# Altium footprint library BKRES_PcbLib.PcbLib: 16 footprints
Each footprint in its own frame and in the unit in brackets; x right, y up, seen from the top. Pads: shape width x height; smd on the part's side, far side on the other; paste and mask are expansions set on the pad; w line width, h text height; cw(c..) or ccw(c..) is an arc to the next point about the centre after c.
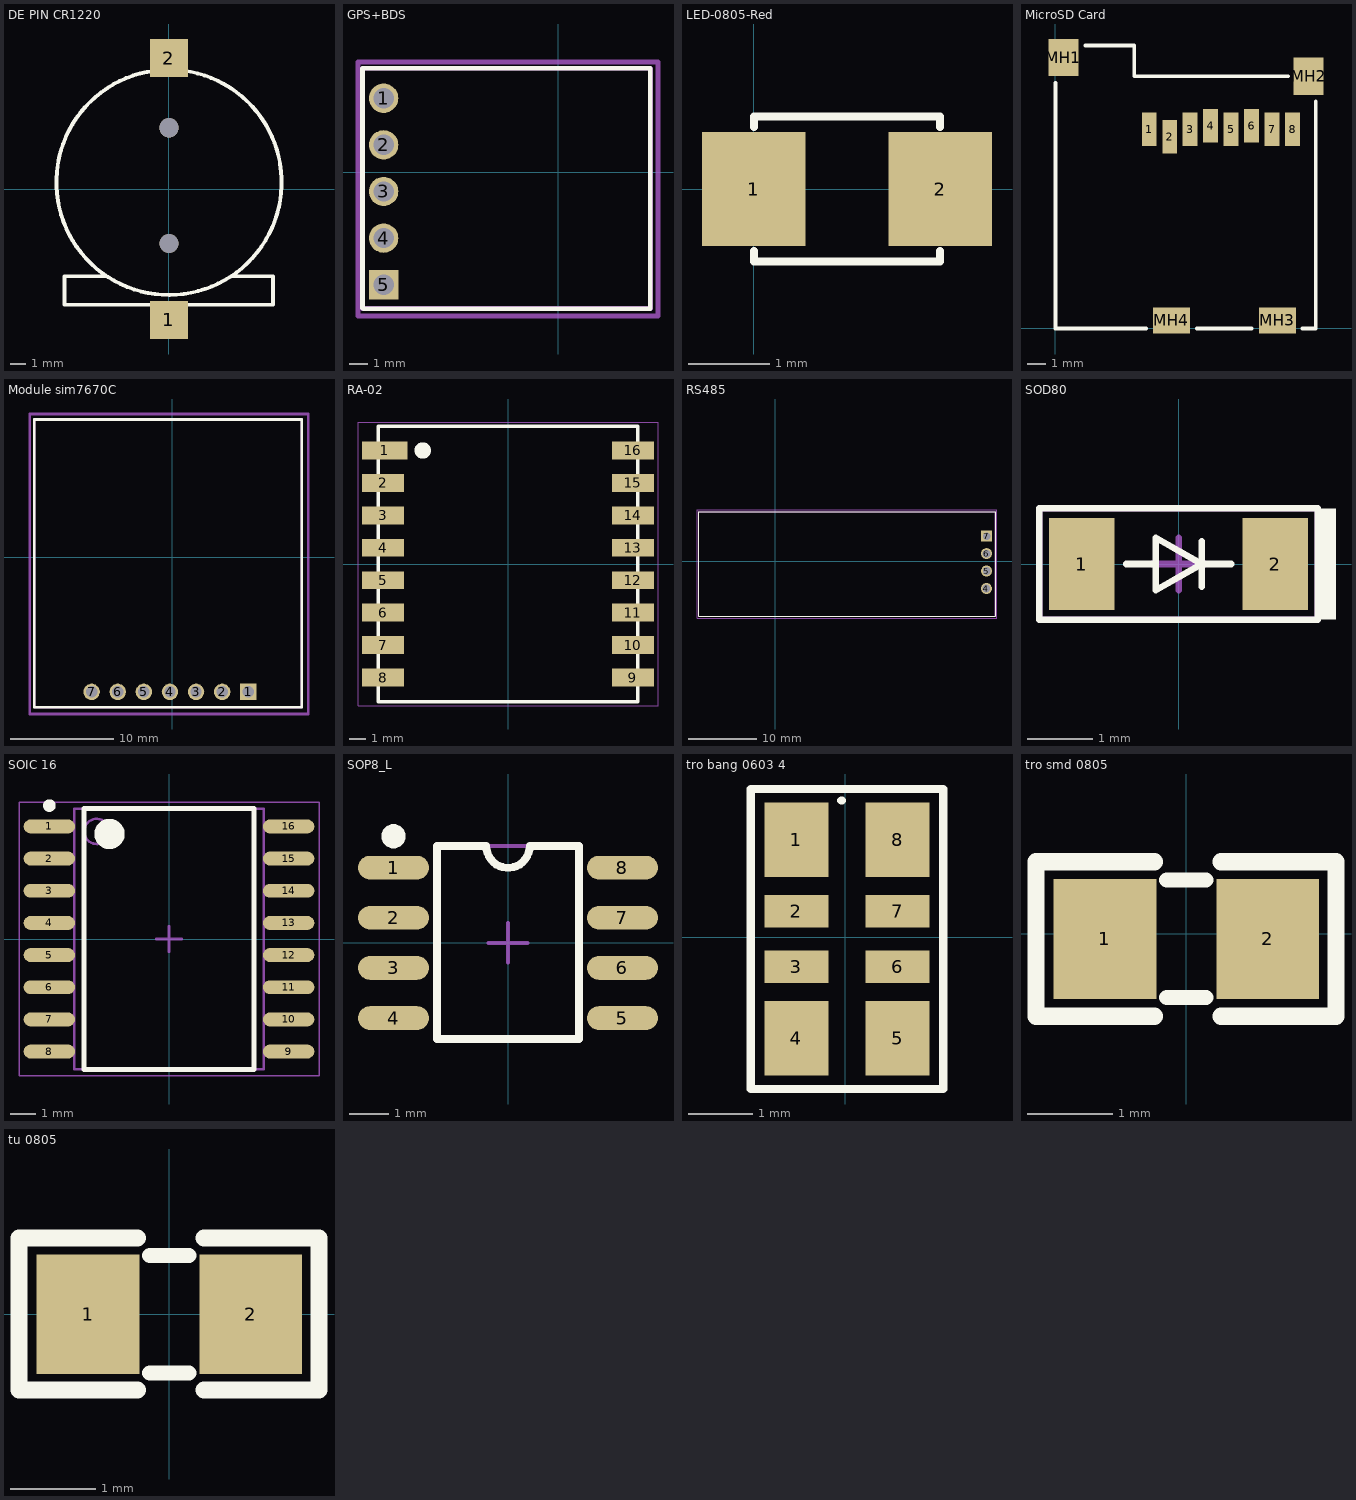
[diagram p0: the footprints below, top view; thin cyan lines are the x and y axes]

## DE PIN CR1220 [mm]
pads (2):
  rect 2.5x2.5 smd: 1(0,-8.6) 2(0,8.6)
via 0.005,-3.579 diameter 1.27 hole 1.27
via 0,4.026 diameter 1.27 hole 1.27
Top Overlay:
  lines w0.254: -4.194,-5.725 -6.868,-5.725 -6.868,-7.6 6.833,-7.6 6.833,-5.725 4.158,-5.725 ; -0.038,7.836 ccw(c0.005,0.439) 0,7.836
3D body "CR1220 SMD.STEP": height 4.27, standoff -0.48, extent -7.389,-9.42 7.36,9.38

## DO [mm]
3D body "Gravity Dissolved Oxygen Sensor v1.0.STEP": height 13.2, standoff 0, extent -33.737,-25.525 29.763,6.475

## EC [mm]
3D body "EC MEter DF Robot v1 v1.step": height 12.6, standoff 0, extent -15.49,-23.077 16.51,42.635

## GPS+BDS [mm]
pads (5):
  round 1.6 hole 1.1: 1(-9.498,4.024) 2(-9.498,1.484) 3(-9.498,-1.056) 4(-9.498,-3.596)
  rect 1.6x1.6 hole 1.1: 5(-9.498,-6.136)
Top Overlay:
  lines w0.254: -10.652,5.647 -10.652,-7.408 -10.619,-7.441 5.011,-7.441 5.022,-7.43 5.022,5.647 5.011,5.658 -10.641,5.658
Mechanical 1:
  lines w0.254: -10.663,-7.419 -10.652,-7.43 ; -10.663,5.637 -10.641,5.658 ; 5.022,-7.43 5.033,-7.441
Mechanical 13:
  lines w0.254: -10.663,-7.419 -10.663,5.637 ; -10.652,-7.43 5.022,-7.43 ; -10.641,5.658 5.033,5.658 5.033,-7.441
Mechanical 15:
  lines w0.254: -10.897,-7.837 -10.897,-7.707 -10.897,5.994 5.445,5.994 5.445,-7.837 -10.897,-7.837
3D body: height 11.5, standoff 11, extent -10.709,-7.456 5.024,5.647

## LED-0805-Red [mil]
pads (2):
  rect 50x55 smd: 1(0,0) 2(90,0)
Top Overlay:
  lines w4: 0,-30 0,-35 90,-35 90,-30 ; 0,30 0,35 90,35 90,30
3D body "User Library-led_0805-red.step": height 43.31, standoff 0, extent 5.25,-24.6 84.77,24.62

## MicroSD Card [mm] "Connector; SD Card Type A, SM, 9 Position, Right Angle, Pitch 2.5 mm, Body 23.3 x 27.4 x 3.4 mm (LxWxH)"
height 3.4
pads (12):
  rect 0.8x1.8 smd: 1(5.04,10.7) 2(6.14,10.3) 3(7.24,10.7) 4(8.34,10.9) 5(9.44,10.7) 6(10.54,10.9) 7(11.64,10.7) 8(12.74,10.7)
  rect 1.6x2 smd: MH1(0.43,14.55) MH2(13.6,13.55)
  rect 2x1.4 smd: MH3(11.93,0.43) MH4(6.23,0.43)
Top Overlay:
  lines w0.2: 0,13.18 0,0 4.87,0 ; 1.6,15.2 4.24,15.2 4.24,13.55 12.5,13.55 ; 7.59,0 10.55,0 ; 13.27,0 13.98,0 13.98,12.19
3D body "SW3dPS-micro sd soket.STEP": height 1.72, standoff -0.01, extent -0.21,-0.49 14.39,15.51

## Module sim7670C [mm]
pads (7):
  rect 1.6x1.6 hole 1.1: 1(7.408,-13.095)
  round 1.6 hole 1.1: 2(4.868,-13.095) 3(2.328,-13.095) 4(-0.212,-13.095) 5(-2.752,-13.095) 6(-5.292,-13.095) 7(-7.832,-13.095)
Top Overlay:
  lines w0.254: -13.395,-14.601 12.605,-14.601 12.605,13.399 -13.395,13.399 -13.395,-14.601
Mechanical 13:
  lines w0.254: -13.395,-14.601 12.605,-14.601 12.605,13.399 -13.395,13.399 -13.395,-14.601
Mechanical 15:
  lines w0.254: -13.866,-15.248 13.258,-15.248 13.258,13.935 -13.866,13.935 -13.866,-15.248
3D body: height 12.24, standoff 11, extent -13.395,-14.601 12.605,13.399

## pH [mm]
3D body "pH_meter_CC.step": height 18.04, standoff -4.75, extent -32.131,-16.383 31.748,15.367

## RA-02 [mm]
pads (16):
  rect 2.8x1.1 smd: 1(-7.6,7)
  rect 2.6x1.1 smd: 2(-7.7,5) 3(-7.7,3) 4(-7.7,1) 5(-7.7,-1) 6(-7.7,-3) 7(-7.7,-5) 8(-7.7,-7) 9(7.7,-7) 10(7.7,-5) 11(7.7,-3) 12(7.7,-1) 13(7.7,1) 14(7.7,3) 15(7.7,5) 16(7.7,7)
Top Overlay:
  circle w0.813: c-5.258,7 r0.1
  lines w0.2: -8,-8.5 -8,8.5 8,8.5 8,-8.5 -8,-8.5
Mechanical 15:
  lines w0.05: -9.25,-8.75 9.25,-8.75 9.25,8.75 -9.25,8.75 -9.25,-8.75
3D body "RA-02--3DModel-STEP-269445.STEP": height 3.3, standoff 0, extent -8.373,-8.5 8.627,8.5

## RS485 [mm]
pads (4):
  round 1.6 hole 1.1: 4(30.723,-3.951) 5(30.738,-1.404) 6(30.732,1.139)
  rect 1.6x1.6 hole 1.1: 7(30.736,3.682)
Top Overlay:
  lines w0.127: -11.176,-8.001 -11.176,7.239 32.004,7.239 32.004,-8.001 -11.176,-8.001
Mechanical 13:
  lines w0.127: -11.176,-8.001 -11.176,7.239 32.004,7.239 32.004,-8.001 -11.176,-8.001
Mechanical 15:
  lines w0.05: -11.43,-8.255 32.258,-8.255 32.258,7.493 -11.43,7.493 -11.43,-8.255
3D body "15EDGK-5.08-03P-14-00A(H).stp": height 19.67, standoff 8.57, extent -25.135,-7.969 -9.635,7.271
3D body "15EDGRC-5.08- 03P-14-00A(H).stp": height 19.2, standoff 8.6, extent -17.925,-7.991 -8.725,7.249
3D body "HW-0519 v1 (1).step": height 13.15, standoff 11, extent -11.176,-8.001 32.004,7.239

## SOD80 [mm] "Diodes - General Purpose"
pads (2):
  rect 1x1.4 smd: 1(-1.475,0) 2(1.475,0)
Top Overlay:
  region: 2.4,0.85 2.1,0.85 2.1,-0.85 2.4,-0.85
  lines w0.1: -0.8,0 -0.35,0 ; 0.35,-0.35 0.35,0.35 ; 0.8,0 0.35,0 ; 0.35,0 -0.35,0.4 -0.35,-0.4 0.35,0 ; -2.125,-0.85 -2.125,0.85 2.125,0.85 2.125,-0.85 -2.125,-0.85
Mechanical 13:
  lines w0.1: -2.125,-0.85 2.125,-0.85 2.125,0.85 -2.125,0.85 -2.125,-0.85
Mechanical 15:
  lines w0.1: -0.4,0 0.4,0 ; 0,-0.4 0,0.4
3D body "User Library-smd diode 1206.STEP": height 1.43, standoff -0.02, extent -1.74,-0.72 1.76,0.73

## SOIC 16 [mm] "SOIC, 16-Leads, Body 10.30x7.50mm, Pitch 1.27mm, IPC Medium Density"
height 2.4
pads (16):
  oval 2.032x0.55 smd: 1(-4.725,4.445) 2(-4.725,3.175) 3(-4.725,1.905) 4(-4.725,0.635) 5(-4.725,-0.635) 6(-4.725,-1.905) 7(-4.725,-3.175) 8(-4.725,-4.445) 9(4.725,-4.445) 10(4.725,-3.175) 11(4.725,-1.905) 12(4.725,-0.635) 13(4.725,0.635) 14(4.725,1.905) 15(4.725,3.175) 16(4.725,4.445)
Top Overlay:
  circle w0.25: c-4.725,5.27 r0.125
  circle w0.6: c-2.35,4.15 r0.3
  lines w0.2: -3.35,-5.15 -3.35,5.15 3.35,5.15 3.35,-5.15 -3.35,-5.15
Mechanical 13:
  circle w0.1: c-2.85,4.25 r0.5
  lines w0.1: -3.75,-5.15 -3.75,5.15 3.75,5.15 3.75,-5.15 -3.75,-5.15
Mechanical 15:
  lines w0.05: -5.925,-5.4 -5.925,5.4 5.925,5.4 5.925,-5.4 -5.925,-5.4
  lines w0.1: -0.5,0 0.5,0 ; 0,-0.5 0,0.5
3D body "User Library-SO-16W.STEP": height 2.48, standoff 0, extent -5.155,-5.165 5.155,5.165

## SOP8_L [mm] "SOIC, 8-Leads, Body 4.9x3.9mm, Pitch 1.27mm, IPC High Density"
height 1.75
pads (8):
  oval 1.8x0.6 smd: 1(-2.9,1.905) 2(-2.9,0.635) 3(-2.9,-0.635) 4(-2.9,-1.905) 5(2.9,-1.905) 6(2.9,-0.635) 7(2.9,0.635) 8(2.9,1.905)
Top Overlay:
  region: -2.9,2.4 -2.96,2.4 -3.07,2.446 -3.154,2.53 -3.2,2.64 -3.2,2.7 -3.2,2.76 -3.154,2.87 -3.07,2.954 -2.96,3 -2.9,3 -2.84,3 -2.73,2.954 -2.646,2.87 -2.6,2.76 -2.6,2.7 -2.6,2.64 -2.646,2.53 -2.73,2.446 -2.84,2.4
  lines w0.2: -1.8,-2.44 1.8,-2.44 1.8,2.45 0.55,2.45 cw(c0,2.45) -0.55,2.45 -1.8,2.45 -1.8,-2.44
Mechanical 13:
  lines w0.1: -1.8,-2.44 1.8,-2.44 1.8,2.45 -1.8,2.45 -1.8,-2.44
Mechanical 15:
  lines w0.1: -0.5,0 0.5,0 ; 0,-0.5 0,0.5
3D body "User Library-SOIC-8-1.STEP": height 1.75, standoff 0, extent -3.01,-2.45 2.99,2.45

## tro bang 0603 4 [mil]
height 300
pads (8):
  rect 39.37x45.67 smd: 1(-30,60) 4(-30,-62) 5(32,-62) 8(32,60)
  rect 39.37x20 smd: 2(-30.06,16.08) 3(-30,-18.08) 6(32.06,-18.08) 7(32.06,16.08)
Top Overlay:
  lines w5: -2.5,84 -2,84 ; -58,-93 -58,91 -47.81,91 -37.44,91 -27.25,91 60,91 60,-93 -58,-93
3D body "Tro bang smd0805.step": height 21.65, standoff 0, extent -29.5,-63.98 33.5,62

## tro smd 0805 [mm]
pads (2):
  rect 1.2x1.4 smd: 1(-0.946,-0.061) 2(0.954,-0.061)
Top Overlay:
  lines w0.178: -0.224,-0.747 0.233,-0.747 ; -0.224,0.625 0.233,0.625
  lines w0.2: -0.367,-0.965 -1.75,-0.965 -1.75,0.838 -0.367,0.838 ; 0.408,-0.965 1.75,-0.965 1.75,0.838 0.408,0.838
3D body "Tro 0805.STEP": height 0.53, standoff 0, extent -1.562,-0.763 1.438,0.637

## tu 0805 [mm] "Compoment SMD 80x50mil"
height 1.27
pads (2):
  rect 1.2x1.4 smd: 1(-0.946,-0.003) 2(0.954,-0.003)
Top Overlay:
  lines w0.178: -0.224,-0.689 0.233,-0.689 ; -0.224,0.682 0.233,0.682
  lines w0.2: -0.367,-0.889 -1.753,-0.889 -1.753,0.889 -0.367,0.889 ; 0.408,-0.889 1.753,-0.889 1.753,0.889 0.408,0.889
3D body "SW3dPS-smt_resistor_packages.STEP": height 0.61, standoff -0.01, extent -1.006,-0.638 1.014,0.632